# EAGLE library part DM1A-DSF-PEJ (library sd-card)
HIROSE DM1A
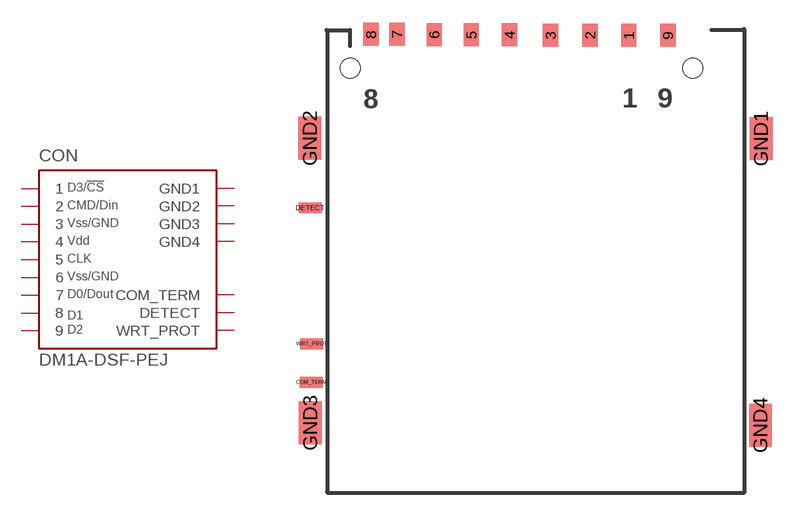
[diagram p0: symbol with the pads of DM1A-DSF-PEJ; footprint DM1A-DSF-PEJ]

Designator prefix CON

## DM1A-DSF-PEJ  [DM1A-DSF-PEJ]
1  1
2  2  in
3  3  pwr
4  4  pwr
5  5  in
6  6  pwr
7  7
8  8
9  9
COM_TERM  COM_TERM  out
DETECT  DETECT  out
GND1  GND1  pwr
GND2  GND2  pwr
GND3  GND3  pwr
GND4  GND4  pwr
WRT_PROT  WRT_PROT  out

## Footprint DM1A-DSF-PEJ (pad centres in mm)
smd 1 x 1.5: 1 6.263,16.174; 2 3.738,16.174; 3 1.161,16.178; 4 -1.516,16.205; 5 -4.016,16.205; 6 -6.44,16.205; 7 -8.865,16.231; 8 -10.565,16.231; 9 8.814,16.174
smd 1.5 x 0.7: COM_TERM -14.462,-6.502; DETECT -14.532,4.902; WRT_PROT -14.437,-3.988
smd 1.5 x 2.8: GND1 14.895,9.427; GND2 -14.549,9.452; GND3 -14.523,-9.152; GND4 14.859,-9.305
hole 1.295 at -11.913,14.021
hole 1.295 at 10.439,14.021